# Altium schematic symbol library BEAGLEPLAYV020_220915_Library.SchLib: 81 symbols
Pins are listed as number, name and electrical type; pins without a type are passive.

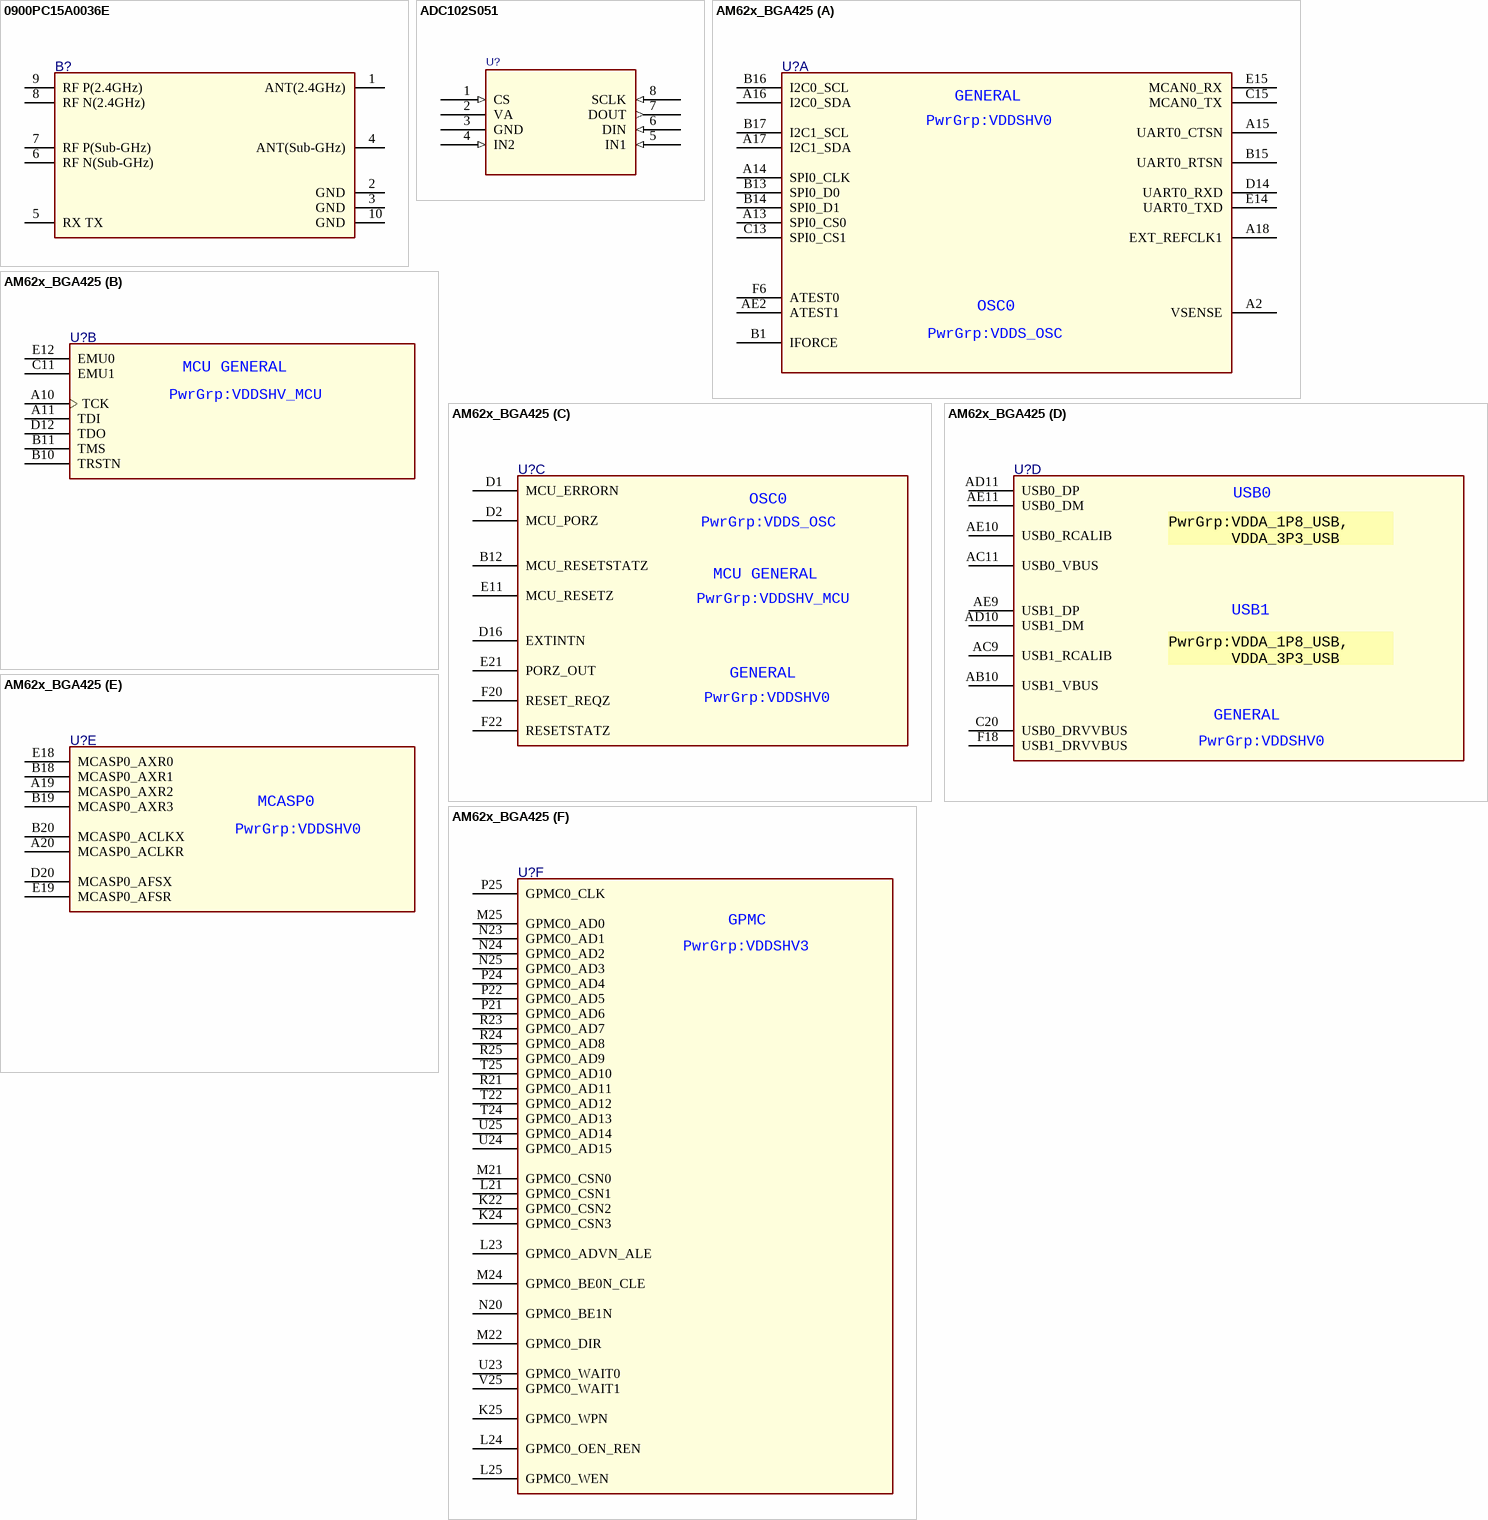
[diagram p0: symbols 0900PC15A0036E to AM62x_BGA425]

## 0900PC15A0036E
designator B?
pins: 1 ANT(2.4GHz), 2 GND (power), 3 GND (power), 4 ANT(Sub-GHz), 5 RX TX, 6 RF N(Sub-GHz), 7 RF P(Sub-GHz), 8 RF N(2.4GHz), 9 RF P(2.4GHz), 10 GND (power)

## ADC102S051
designator U?
pins: 1 CS (in), 2 VA (power), 3 GND (power), 4 IN2 (in), 5 IN1 (in), 6 DIN (in), 7 DOUT (out), 8 SCLK (in)

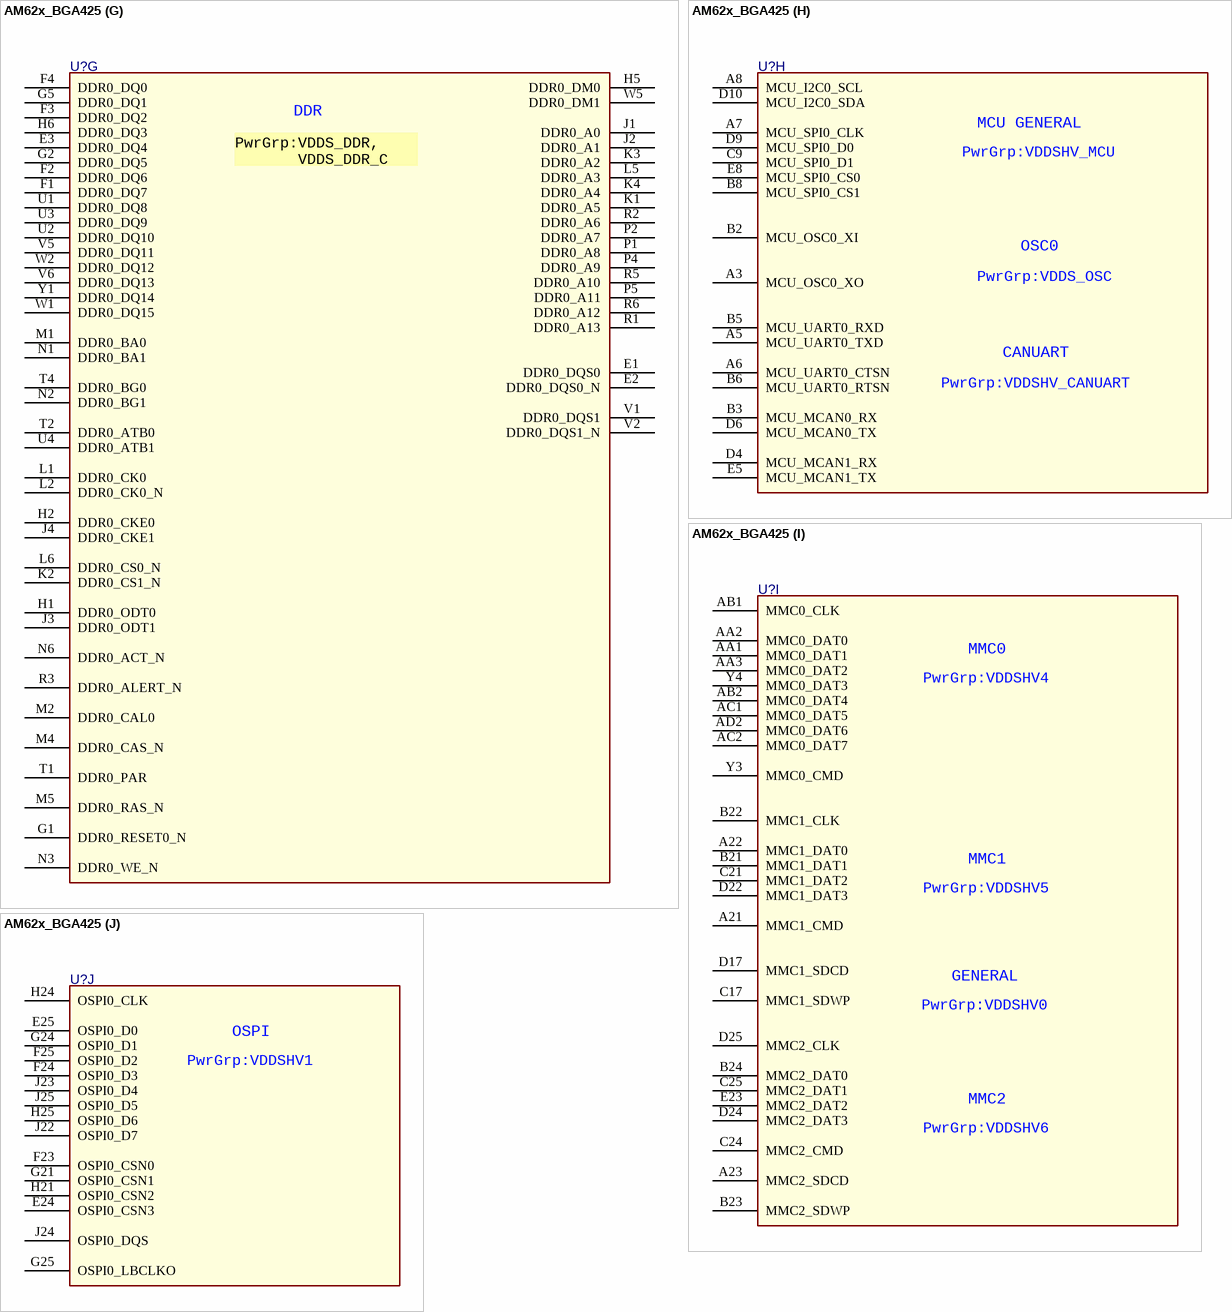
[diagram p1: symbol AM62x_BGA425]

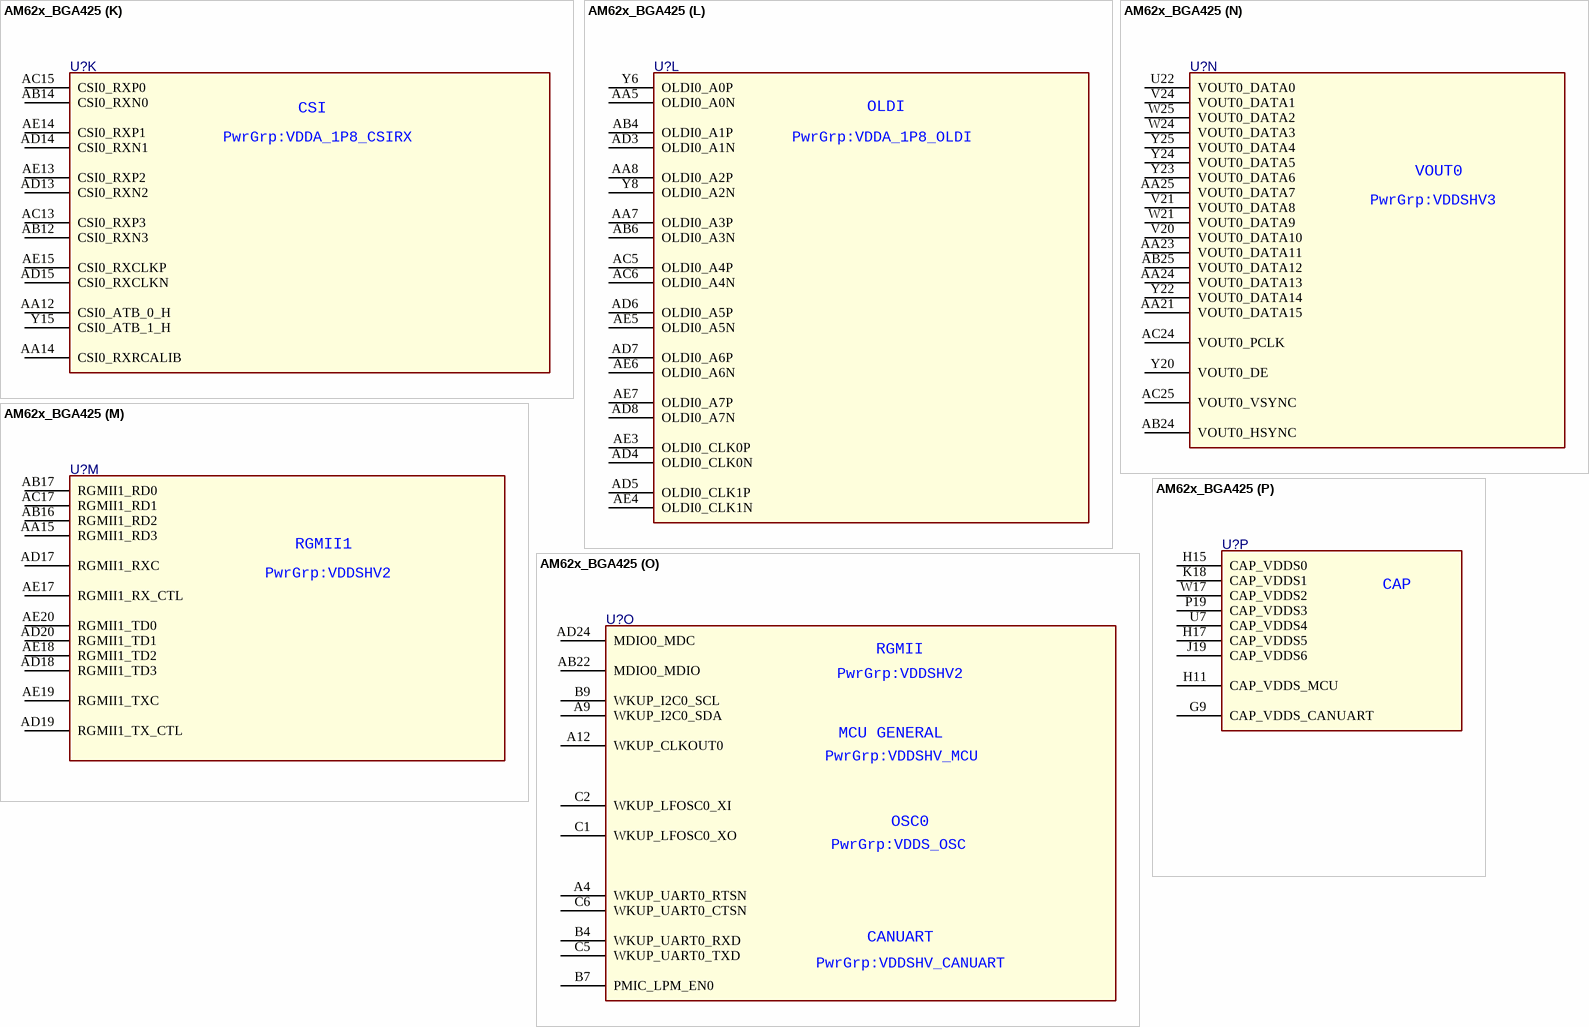
[diagram p2: symbol AM62x_BGA425]

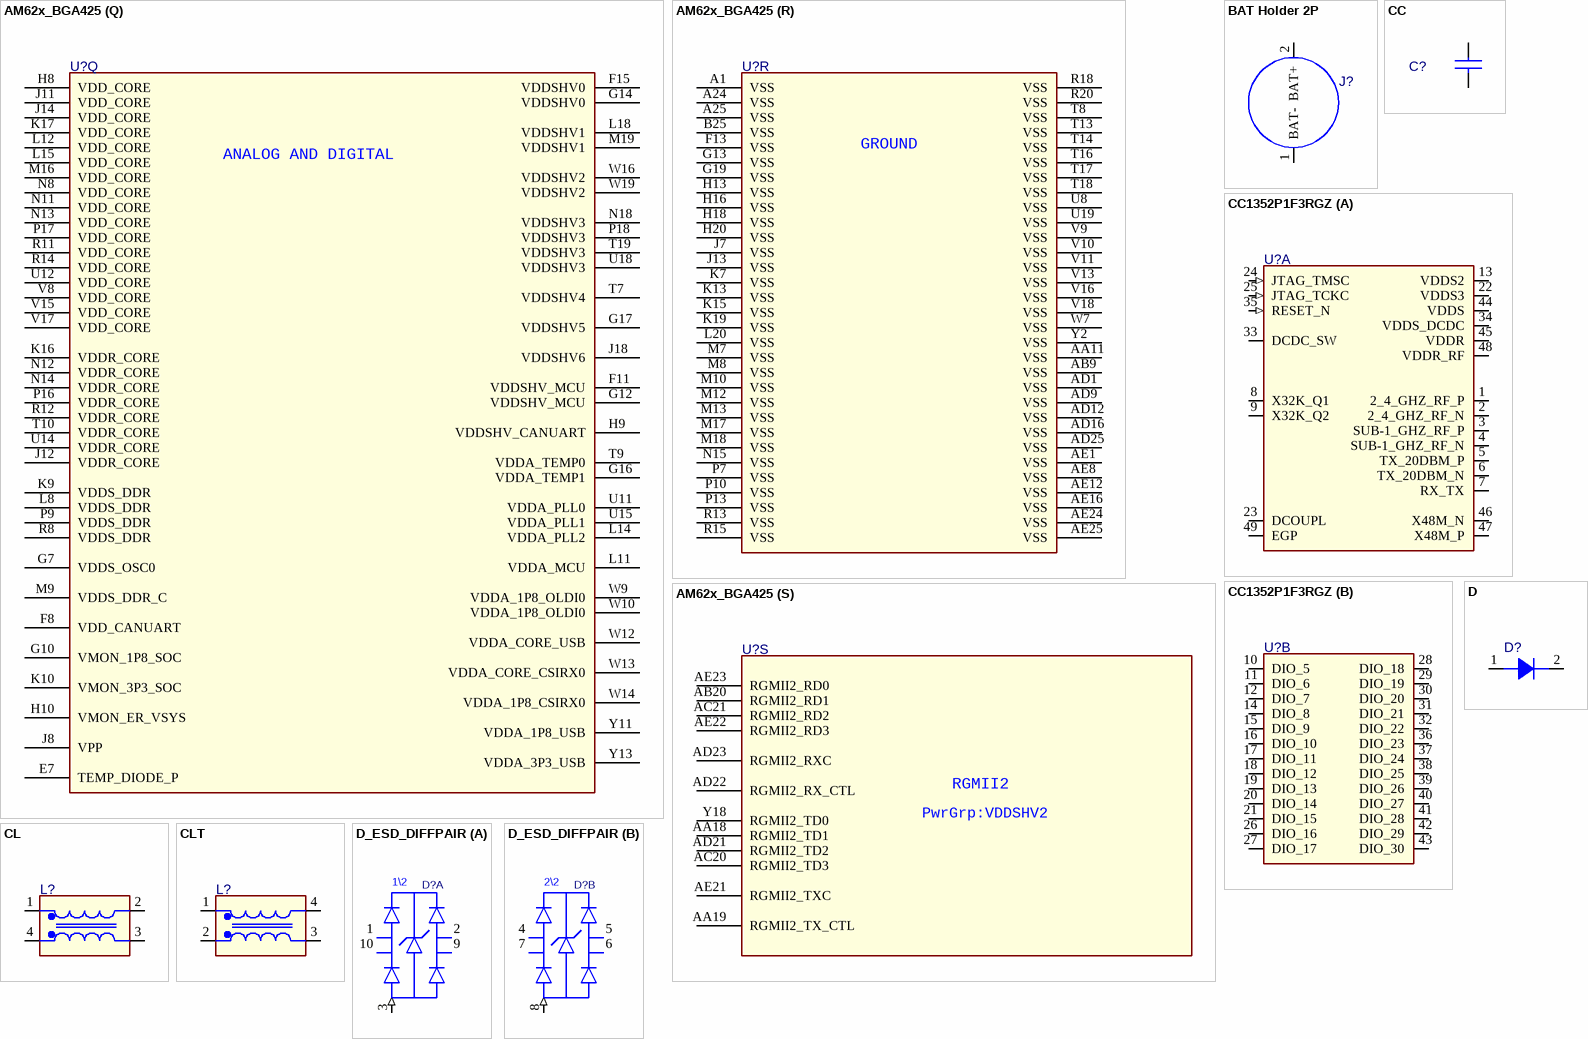
[diagram p3: symbols AM62x_BGA425 to D_ESD_DIFFPAIR]

## AM62x_BGA425
designator U?
part A pins: A2 VSENSE, A13 SPI0_CS0, A14 SPI0_CLK, A15 UART0_CTSN, A16 I2C0_SDA, A17 I2C1_SDA, A18 EXT_REFCLK1, AE2 ATEST1, B1 IFORCE, B13 SPI0_D0, B14 SPI0_D1, B15 UART0_RTSN, B16 I2C0_SCL, B17 I2C1_SCL, C13 SPI0_CS1, C15 MCAN0_TX, D14 UART0_RXD, E14 UART0_TXD, E15 MCAN0_RX, F6 ATEST0
part B pins: A10 TCK, A11 TDI, B10 TRSTN, B11 TMS, C11 EMU1, D12 TDO, E12 EMU0
part C pins: B12 MCU_RESETSTATZ, D1 MCU_ERRORN, D2 MCU_PORZ, D16 EXTINTN, E11 MCU_RESETZ, E21 PORZ_OUT, F20 RESET_REQZ, F22 RESETSTATZ
part D pins: AB10 USB1_VBUS, AC9 USB1_RCALIB, AC11 USB0_VBUS, AD10 USB1_DM, AD11 USB0_DP, AE9 USB1_DP, AE10 USB0_RCALIB, AE11 USB0_DM, C20 USB0_DRVVBUS, F18 USB1_DRVVBUS
part E pins: A19 MCASP0_AXR2, A20 MCASP0_ACLKR, B18 MCASP0_AXR1, B19 MCASP0_AXR3, B20 MCASP0_ACLKX, D20 MCASP0_AFSX, E18 MCASP0_AXR0, E19 MCASP0_AFSR
part F pins: K22 GPMC0_CSN2, K24 GPMC0_CSN3, K25 GPMC0_WPN, L21 GPMC0_CSN1, L23 GPMC0_ADVN_ALE, L24 GPMC0_OEN_REN, L25 GPMC0_WEN, M21 GPMC0_CSN0, M22 GPMC0_DIR, M24 GPMC0_BE0N_CLE, M25 GPMC0_AD0, N20 GPMC0_BE1N, N23 GPMC0_AD1, N24 GPMC0_AD2, N25 GPMC0_AD3, P21 GPMC0_AD6, P22 GPMC0_AD5, P24 GPMC0_AD4, P25 GPMC0_CLK, R21 GPMC0_AD11, R23 GPMC0_AD7, R24 GPMC0_AD8, R25 GPMC0_AD9, T22 GPMC0_AD12, T24 GPMC0_AD13, T25 GPMC0_AD10, U23 GPMC0_WAIT0, U24 GPMC0_AD15, U25 GPMC0_AD14, V25 GPMC0_WAIT1
part G pins: E1 DDR0_DQS0, E2 DDR0_DQS0_N, E3 DDR0_DQ4, F1 DDR0_DQ7, F2 DDR0_DQ6, F3 DDR0_DQ2, F4 DDR0_DQ0, G1 DDR0_RESET0_N, G2 DDR0_DQ5, G5 DDR0_DQ1, H1 DDR0_ODT0, H2 DDR0_CKE0, H5 DDR0_DM0, H6 DDR0_DQ3, J1 DDR0_A0, J2 DDR0_A1, J3 DDR0_ODT1, J4 DDR0_CKE1, K1 DDR0_A5, K2 DDR0_CS1_N, K3 DDR0_A2, K4 DDR0_A4, L1 DDR0_CK0, L2 DDR0_CK0_N, L5 DDR0_A3, L6 DDR0_CS0_N, M1 DDR0_BA0, M2 DDR0_CAL0, M4 DDR0_CAS_N, M5 DDR0_RAS_N, N1 DDR0_BA1, N2 DDR0_BG1, N3 DDR0_WE_N, N6 DDR0_ACT_N, P1 DDR0_A8, P2 DDR0_A7, P4 DDR0_A9, P5 DDR0_A11, R1 DDR0_A13, R2 DDR0_A6, R3 DDR0_ALERT_N, R5 DDR0_A10, R6 DDR0_A12, T1 DDR0_PAR, T2 DDR0_ATB0, T4 DDR0_BG0, U1 DDR0_DQ8, U2 DDR0_DQ10, U3 DDR0_DQ9, U4 DDR0_ATB1, V1 DDR0_DQS1, V2 DDR0_DQS1_N, V5 DDR0_DQ11, V6 DDR0_DQ13, W1 DDR0_DQ15, W2 DDR0_DQ12, W5 DDR0_DM1, Y1 DDR0_DQ14
part H pins: A3 MCU_OSC0_XO, A5 MCU_UART0_TXD, A6 MCU_UART0_CTSN, A7 MCU_SPI0_CLK, A8 MCU_I2C0_SCL, B2 MCU_OSC0_XI, B3 MCU_MCAN0_RX, B5 MCU_UART0_RXD, B6 MCU_UART0_RTSN, B8 MCU_SPI0_CS1, C9 MCU_SPI0_D1, D4 MCU_MCAN1_RX, D6 MCU_MCAN0_TX, D9 MCU_SPI0_D0, D10 MCU_I2C0_SDA, E5 MCU_MCAN1_TX, E8 MCU_SPI0_CS0
part I pins: A21 MMC1_CMD, A22 MMC1_DAT0, A23 MMC2_SDCD, AA1 MMC0_DAT1, AA2 MMC0_DAT0, AA3 MMC0_DAT2, AB1 MMC0_CLK, AB2 MMC0_DAT4, AC1 MMC0_DAT5, AC2 MMC0_DAT7, AD2 MMC0_DAT6, B21 MMC1_DAT1, B22 MMC1_CLK, B23 MMC2_SDWP, B24 MMC2_DAT0, C17 MMC1_SDWP, C21 MMC1_DAT2, C24 MMC2_CMD, C25 MMC2_DAT1, D17 MMC1_SDCD, D22 MMC1_DAT3, D24 MMC2_DAT3, D25 MMC2_CLK, E23 MMC2_DAT2, Y3 MMC0_CMD, Y4 MMC0_DAT3
part J pins: E24 OSPI0_CSN3, E25 OSPI0_D0, F23 OSPI0_CSN0, F24 OSPI0_D3, F25 OSPI0_D2, G21 OSPI0_CSN1, G24 OSPI0_D1, G25 OSPI0_LBCLKO, H21 OSPI0_CSN2, H24 OSPI0_CLK, H25 OSPI0_D6, J22 OSPI0_D7, J23 OSPI0_D4, J24 OSPI0_DQS, J25 OSPI0_D5
part K pins: AA12 CSI0_ATB_0_H, AA14 CSI0_RXRCALIB, AB12 CSI0_RXN3, AB14 CSI0_RXN0, AC13 CSI0_RXP3, AC15 CSI0_RXP0, AD13 CSI0_RXN2, AD14 CSI0_RXN1, AD15 CSI0_RXCLKN, AE13 CSI0_RXP2, AE14 CSI0_RXP1, AE15 CSI0_RXCLKP, Y15 CSI0_ATB_1_H
part L pins: AA5 OLDI0_A0N, AA7 OLDI0_A3P, AA8 OLDI0_A2P, AB4 OLDI0_A1P, AB6 OLDI0_A3N, AC5 OLDI0_A4P, AC6 OLDI0_A4N, AD3 OLDI0_A1N, AD4 OLDI0_CLK0N, AD5 OLDI0_CLK1P, AD6 OLDI0_A5P, AD7 OLDI0_A6P, AD8 OLDI0_A7N, AE3 OLDI0_CLK0P, AE4 OLDI0_CLK1N, AE5 OLDI0_A5N, AE6 OLDI0_A6N, AE7 OLDI0_A7P, Y6 OLDI0_A0P, Y8 OLDI0_A2N
part M pins: AA15 RGMII1_RD3, AB16 RGMII1_RD2, AB17 RGMII1_RD0, AC17 RGMII1_RD1, AD17 RGMII1_RXC, AD18 RGMII1_TD3, AD19 RGMII1_TX_CTL, AD20 RGMII1_TD1, AE17 RGMII1_RX_CTL, AE18 RGMII1_TD2, AE19 RGMII1_TXC, AE20 RGMII1_TD0
part N pins: AA21 VOUT0_DATA15, AA23 VOUT0_DATA11, AA24 VOUT0_DATA13, AA25 VOUT0_DATA7, AB24 VOUT0_HSYNC, AB25 VOUT0_DATA12, AC24 VOUT0_PCLK, AC25 VOUT0_VSYNC, U22 VOUT0_DATA0, V20 VOUT0_DATA10, V21 VOUT0_DATA8, V24 VOUT0_DATA1, W21 VOUT0_DATA9, W24 VOUT0_DATA3, W25 VOUT0_DATA2, Y20 VOUT0_DE, Y22 VOUT0_DATA14, Y23 VOUT0_DATA6, Y24 VOUT0_DATA5, Y25 VOUT0_DATA4
part O pins: A4 WKUP_UART0_RTSN, A9 WKUP_I2C0_SDA, A12 WKUP_CLKOUT0, AB22 MDIO0_MDIO, AD24 MDIO0_MDC, B4 WKUP_UART0_RXD, B7 PMIC_LPM_EN0, B9 WKUP_I2C0_SCL, C1 WKUP_LFOSC0_XO, C2 WKUP_LFOSC0_XI, C5 WKUP_UART0_TXD, C6 WKUP_UART0_CTSN
part P pins: G9 CAP_VDDS_CANUART, H11 CAP_VDDS_MCU, H15 CAP_VDDS0, H17 CAP_VDDS5, J19 CAP_VDDS6, K18 CAP_VDDS1, P19 CAP_VDDS3, U7 CAP_VDDS4, W17 CAP_VDDS2
part Q pins: E7 TEMP_DIODE_P, F8 VDD_CANUART (power), F11 VDDSHV_MCU (power), F15 VDDSHV0 (power), G7 VDDS_OSC0 (power), G10 VMON_1P8_SOC (power), G12 VDDSHV_MCU (power), G14 VDDSHV0 (power), G16 VDDA_TEMP1 (power), G17 VDDSHV5 (power), H8 VDD_CORE (power), H9 VDDSHV_CANUART (power), H10 VMON_ER_VSYS (power), J8 VPP (power), J11 VDD_CORE (power), J12 VDDR_CORE (power), J14 VDD_CORE (power), J18 VDDSHV6 (power), K9 VDDS_DDR (power), K10 VMON_3P3_SOC (power), K16 VDDR_CORE (power), K17 VDD_CORE (power), L8 VDDS_DDR (power), L11 VDDA_MCU (power), L12 VDD_CORE (power), L14 VDDA_PLL2 (power), L15 VDD_CORE (power), L18 VDDSHV1 (power), M9 VDDS_DDR_C (power), M16 VDD_CORE (power), M19 VDDSHV1 (power), N8 VDD_CORE (power), N11 VDD_CORE (power), N12 VDDR_CORE (power), N13 VDD_CORE (power), N14 VDDR_CORE (power), N18 VDDSHV3 (power), P9 VDDS_DDR (power), P16 VDDR_CORE (power), P17 VDD_CORE (power), P18 VDDSHV3 (power), R8 VDDS_DDR (power), R11 VDD_CORE (power), R12 VDDR_CORE (power), R14 VDD_CORE (power), T7 VDDSHV4 (power), T9 VDDA_TEMP0 (power), T10 VDDR_CORE (power), T19 VDDSHV3 (power), U11 VDDA_PLL0 (power), U12 VDD_CORE (power), U14 VDDR_CORE (power), U15 VDDA_PLL1 (power), U18 VDDSHV3 (power), V8 VDD_CORE (power), V15 VDD_CORE (power), V17 VDD_CORE (power), W9 VDDA_1P8_OLDI0 (power), W10 VDDA_1P8_OLDI0 (power), W12 VDDA_CORE_USB (power), W13 VDDA_CORE_CSIRX0 (power), W14 VDDA_1P8_CSIRX0 (power), W16 VDDSHV2 (power), W19 VDDSHV2 (power), Y11 VDDA_1P8_USB (power), Y13 VDDA_3P3_USB (power)
part R pins: A1 VSS (power), A24 VSS (power), A25 VSS (power), AA11 VSS (power), AB9 VSS (power), AD1 VSS (power), AD9 VSS (power), AD12 VSS (power), AD16 VSS (power), AD25 VSS (power), AE1 VSS (power), AE8 VSS (power), AE12 VSS (power), AE16 VSS (power), AE24 VSS (power), AE25 VSS (power), B25 VSS (power), F13 VSS (power), G13 VSS (power), G19 VSS (power), H13 VSS (power), H16 VSS (power), H18 VSS (power), H20 VSS (power), J7 VSS (power), J13 VSS (power), K7 VSS (power), K13 VSS (power), K15 VSS (power), K19 VSS (power), L20 VSS (power), M7 VSS (power), M8 VSS (power), M10 VSS (power), M12 VSS (power), M13 VSS (power), M17 VSS (power), M18 VSS (power), N15 VSS (power), P7 VSS (power), P10 VSS (power), P13 VSS (power), R13 VSS (power), R15 VSS (power), R18 VSS (power), R20 VSS (power), T8 VSS (power), T13 VSS (power), T14 VSS (power), T16 VSS (power), T17 VSS (power), T18 VSS (power), U8 VSS (power), U19 VSS (power), V9 VSS (power), V10 VSS (power), V11 VSS (power), V13 VSS (power), V16 VSS (power), V18 VSS (power), W7 VSS (power), Y2 VSS (power)
part S pins: AA18 RGMII2_TD1, AA19 RGMII2_TX_CTL, AB20 RGMII2_RD1, AC20 RGMII2_TD3, AC21 RGMII2_RD2, AD21 RGMII2_TD2, AD22 RGMII2_RX_CTL, AD23 RGMII2_RXC, AE21 RGMII2_TXC, AE22 RGMII2_RD3, AE23 RGMII2_RD0, Y18 RGMII2_TD0
part A text: GENERAL; PwrGrp:VDDSHV0; OSC0; PwrGrp:VDDS_OSC
part B text: MCU GENERAL; PwrGrp:VDDSHV_MCU
part C text: OSC0; PwrGrp:VDDS_OSC; MCU GENERAL; PwrGrp:VDDSHV_MCU; GENERAL; PwrGrp:VDDSHV0
part D text: USB0; PwrGrp:VDDA_1P8_USB, / VDDA_3P3_USB; USB1; GENERAL; PwrGrp:VDDSHV0
part E text: MCASP0; PwrGrp:VDDSHV0
part F text: GPMC; PwrGrp:VDDSHV3
part G text: DDR; PwrGrp:VDDS_DDR, / VDDS_DDR_C
part H text: MCU GENERAL; PwrGrp:VDDSHV_MCU; OSC0; PwrGrp:VDDS_OSC; CANUART; PwrGrp:VDDSHV_CANUART
part I text: MMC0; PwrGrp:VDDSHV4; MMC1; PwrGrp:VDDSHV5; GENERAL; PwrGrp:VDDSHV0; MMC2; PwrGrp:VDDSHV6
part J text: OSPI; PwrGrp:VDDSHV1
part K text: CSI; PwrGrp:VDDA_1P8_CSIRX
part L text: OLDI; PwrGrp:VDDA_1P8_OLDI
part M text: RGMII1; PwrGrp:VDDSHV2
part N text: VOUT0; PwrGrp:VDDSHV3
part O text: RGMII; PwrGrp:VDDSHV2; MCU GENERAL; PwrGrp:VDDSHV_MCU; OSC0; PwrGrp:VDDS_OSC; CANUART; PwrGrp:VDDSHV_CANUART
part P text: CAP
part Q text: ANALOG AND DIGITAL
part R text: GROUND
part S text: RGMII2; PwrGrp:VDDSHV2

## BAT Holder 2P
designator J?
pins: 1 BAT-, 2 BAT+

## CC
designator C?
pins: 1, 2
1 alternate drawing of the same symbol

## CC1352P1F3RGZ
designator U?
part A pins: 1 2_4_GHZ_RF_P, 2 2_4_GHZ_RF_N, 3 SUB-1_GHZ_RF_P, 4 SUB-1_GHZ_RF_N, 5 TX_20DBM_P, 6 TX_20DBM_N, 7 RX_TX, 8 X32K_Q1, 9 X32K_Q2, 13 VDDS2 (power), 22 VDDS3 (power), 23 DCOUPL, 24 JTAG_TMSC (in), 25 JTAG_TCKC (in), 33 DCDC_SW, 34 VDDS_DCDC (power), 35 RESET_N (in), 44 VDDS (power), 45 VDDR (power), 46 X48M_N, 47 X48M_P, 48 VDDR_RF (power), 49 EGP (power)
part B pins: 10 DIO_5, 11 DIO_6, 12 DIO_7, 14 DIO_8, 15 DIO_9, 16 DIO_10, 17 DIO_11, 18 DIO_12, 19 DIO_13, 20 DIO_14, 21 DIO_15, 26 DIO_16, 27 DIO_17, 28 DIO_18, 29 DIO_19, 30 DIO_20, 31 DIO_21, 32 DIO_22, 36 DIO_23, 37 DIO_24, 38 DIO_25, 39 DIO_26, 40 DIO_27, 41 DIO_28, 42 DIO_29, 43 DIO_30

## CL
designator L?
pins: 1, 2, 3, 4

## CLT
designator L?
pins: 1, 2, 3, 4

## D
designator D?
pins: 1 A, 2 C

## D_ESD_DIFFPAIR
designator D?
part A pins: 1 1A, 2 2A, 3 GND1 (in), 9 2B, 10 1B
part B pins: 4 3A, 5 4A, 6 4B, 7 3B, 8 GND1 (in)
part A text: 1\2
part B text: 2\2

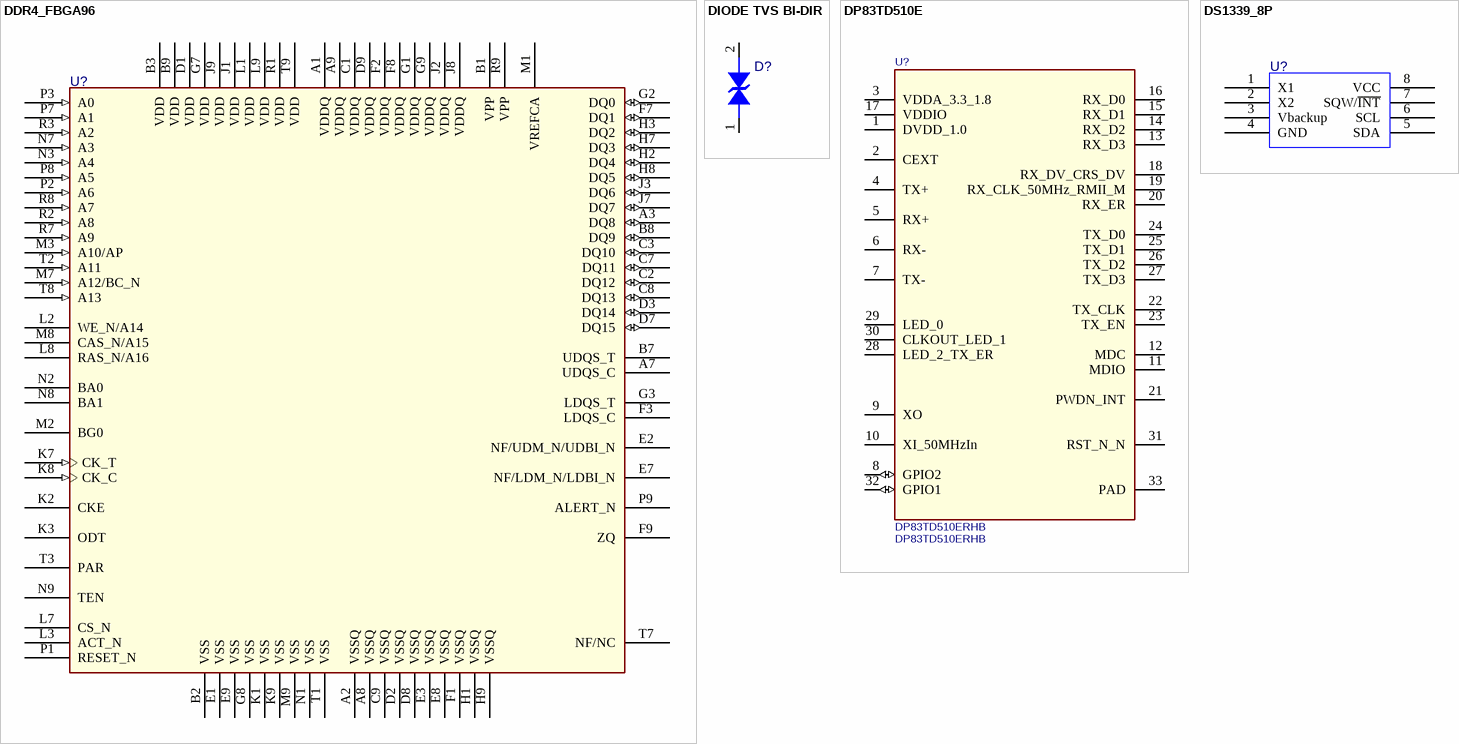
[diagram p4: symbols DDR4_FBGA96 to DS1339_8P]

## DDR4_FBGA96
designator U?
pins: A1 VDDQ (power), A2 VSSQ (power), A3 DQ8 (io), A7 UDQS_C, A8 VSSQ (power), A9 VDDQ (power), B1 VPP (power), B2 VSS (power), B3 VDD (power), B7 UDQS_T, B8 DQ9 (io), B9 VDD (power), C1 VDDQ (power), C2 DQ12 (io), C3 DQ10 (io), C7 DQ11 (io), C8 DQ13 (io), C9 VSSQ (power), D1 VDD (power), D2 VSSQ (power), D3 DQ14 (io), D7 DQ15 (io), D8 VSSQ (power), D9 VDDQ (power), E1 VSS (power), E2 NF/UDM_N/UDBI_N, E3 VSSQ (power), E7 NF/LDM_N/LDBI_N, E8 VSSQ (power), E9 VSS (power), F1 VSSQ (power), F2 VDDQ (power), F3 LDQS_C, F7 DQ1 (io), F8 VDDQ (power), F9 ZQ, G1 VDDQ (power), G2 DQ0 (io), G3 LDQS_T, G7 VDD (power), G8 VSS (power), G9 VDDQ (power), H1 VSSQ (power), H2 DQ4 (io), H3 DQ2 (io), H7 DQ3 (io), H8 DQ5 (io), H9 VSSQ (power), J1 VDD (power), J2 VDDQ (power), J3 DQ6 (io), J7 DQ7 (io), J8 VDDQ (power), J9 VDD (power), K1 VSS (power), K2 CKE, K3 ODT, K7 CK_T (in), K8 CK_C (in), K9 VSS (power), L1 VDD (power), L2 WE_N/A14, L3 ACT_N, L7 CS_N, L8 RAS_N/A16, L9 VDD (power), M1 VREFCA (power), M2 BG0, M3 A10/AP (in), M7 A12/BC_N (in), M8 CAS_N/A15, M9 VSS (power), N1 VSS (power), N2 BA0, N3 A4 (in), N7 A3 (in), N8 BA1, N9 TEN, P1 RESET_N, P2 A6 (in), P3 A0 (in), P7 A1 (in), P8 A5 (in), P9 ALERT_N, R1 VDD (power), R2 A8 (in), R3 A2 (in), R7 A9 (in), R8 A7 (in), R9 VPP (power), T1 VSS (power), T2 A11 (in), T3 PAR, T7 NF/NC, T8 A13 (in), T9 VDD (power)

## DIODE TVS BI-DIR
designator D?
pins: 1, 2

## DP83TD510E
designator U?, comment DP83TD510ERHB
Value: DP83TD510ERHB
pins: 1 DVDD_1.0 (power), 2 CEXT, 3 VDDA_3.3_1.8 (power), 4 TX+, 5 RX+, 6 RX-, 7 TX-, 8 GPIO2 (io), 9 XO, 10 XI_50MHzIn, 11 MDIO, 12 MDC, 13 RX_D3, 14 RX_D2, 15 RX_D1, 16 RX_D0, 17 VDDIO (power), 18 RX_DV_CRS_DV, 19 RX_CLK_50MHz_RMII_M, 20 RX_ER, 21 PWDN_INT, 22 TX_CLK, 23 TX_EN, 24 TX_D0, 25 TX_D1, 26 TX_D2, 27 TX_D3, 28 LED_2_TX_ER, 29 LED_0, 30 CLKOUT_LED_1, 31 RST_N_N, 32 GPIO1 (io), 33 PAD (power)

## DS1339_8P
designator U?
pins: 1 X1, 2 X2, 3 Vbackup (power), 4 GND, 5 SDA, 6 SCL, 7 SQW/~{INT}, 8 VCC

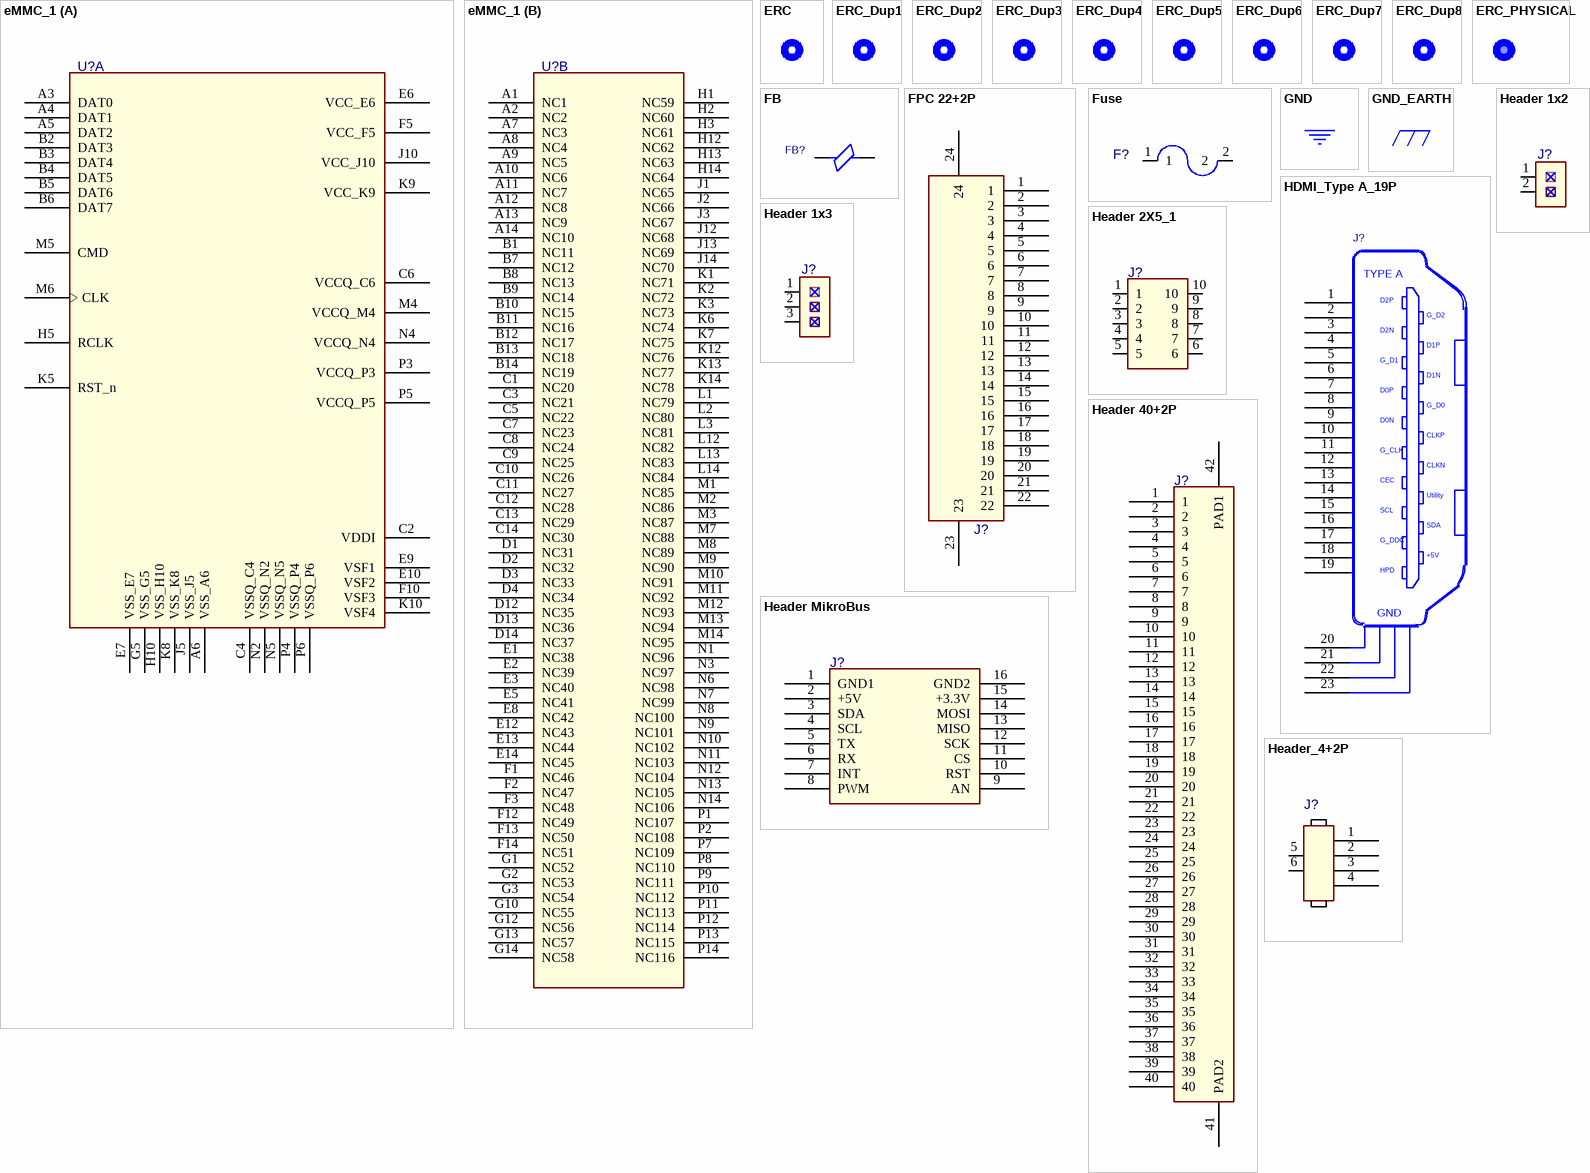
[diagram p5: symbols eMMC_1 to Header_4+2P]

## eMMC_1
designator U?
SWAP_INFO: (S1+S2); SPLIT_INST: TRUE
part A pins: A3 DAT0, A4 DAT1, A5 DAT2, A6 VSS_A6, B2 DAT3, B3 DAT4, B4 DAT5, B5 DAT6, B6 DAT7, C2 VDDI, C4 VSSQ_C4, C6 VCCQ_C6, E6 VCC_E6, E7 VSS_E7, E9 VSF1, E10 VSF2, F5 VCC_F5, F10 VSF3, G5 VSS_G5, H5 RCLK, H10 VSS_H10, J5 VSS_J5, J10 VCC_J10, K5 RST_n, K8 VSS_K8, K9 VCC_K9, K10 VSF4, M4 VCCQ_M4, M5 CMD, M6 CLK, N2 VSSQ_N2, N4 VCCQ_N4, N5 VSSQ_N5, P3 VCCQ_P3, P4 VSSQ_P4, P5 VCCQ_P5, P6 VSSQ_P6
part B pins: A1 NC1, A2 NC2, A7 NC3, A8 NC4, A9 NC5, A10 NC6, A11 NC7, A12 NC8, A13 NC9, A14 NC10, B1 NC11, B7 NC12, B8 NC13, B9 NC14, B10 NC15, B11 NC16, B12 NC17, B13 NC18, B14 NC19, C1 NC20, C3 NC21, C5 NC22, C7 NC23, C8 NC24, C9 NC25, C10 NC26, C11 NC27, C12 NC28, C13 NC29, C14 NC30, D1 NC31, D2 NC32, D3 NC33, D4 NC34, D12 NC35, D13 NC36, D14 NC37, E1 NC38, E2 NC39, E3 NC40, E5 NC41, E8 NC42, E12 NC43, E13 NC44, E14 NC45, F1 NC46, F2 NC47, F3 NC48, F12 NC49, F13 NC50, F14 NC51, G1 NC52, G2 NC53, G3 NC54, G10 NC55, G12 NC56, G13 NC57, G14 NC58, H1 NC59, H2 NC60, H3 NC61, H12 NC62, H13 NC63, H14 NC64, J1 NC65, J2 NC66, J3 NC67, J12 NC68, J13 NC69, J14 NC70, K1 NC71, K2 NC72, K3 NC73, K6 NC74, K7 NC75, K12 NC76, K13 NC77, K14 NC78, L1 NC79, L2 NC80, L3 NC81, L12 NC82, L13 NC83, L14 NC84, M1 NC85, M2 NC86, M3 NC87, M7 NC88, M8 NC89, M9 NC90, M10 NC91, M11 NC92, M12 NC93, M13 NC94, M14 NC95, N1 NC96, N3 NC97, N6 NC98, N7 NC99, N8 NC100, N9 NC101, N10 NC102, N11 NC103, N12 NC104, N13 NC105, N14 NC106, P1 NC107, P2 NC108, P7 NC109, P8 NC110, P9 NC111, P10 NC112, P11 NC113, P12 NC114, P13 NC115, P14 NC116

## ERC
designator *  (value not drawn)  (graphical)

## ERC_Dup1
designator *  (value not drawn)  (graphical)

## ERC_Dup2
designator *  (value not drawn)  (graphical)

## ERC_Dup3
designator *  (value not drawn)  (graphical)

## ERC_Dup4
designator *  (value not drawn)  (graphical)

## ERC_Dup5
designator *  (value not drawn)  (graphical)

## ERC_Dup6
designator *  (value not drawn)  (graphical)

## ERC_Dup7
designator *  (value not drawn)  (graphical)

## ERC_Dup8
designator *  (value not drawn)  (graphical)

## ERC_PHYSICAL
designator *  (value not drawn)  (graphical)

## FB
designator FB?
pins: 1, 2

## FPC 22+2P
designator J?
pins: 1, 2, 3, 4, 5, 6, 7, 8, 9, 10, 11, 12, 13, 14, 15, 16, 17, 18, 19, 20, 21, 22, 23, 24

## Fuse
designator F?
pins: 1, 2

## GND
designator *  (value not drawn)  (graphical)
pins: $PIN0 (power) hidden to $PIN0

## GND_EARTH
designator *  (value not drawn)  (graphical)
pins: $PIN0 (power) hidden to $PIN0

## HDMI_Type A_19P
designator J?
pins: 1 D2+, 2 D2GND (power), 3 D2-, 4 D1+, 5 D1GND (power), 6 D1-, 7 D0+, 8 D0GND (power), 9 D0-, 10 CK+, 11 CKGND (power), 12 CK-, 13 CEC, 14 Utility, 15 SCL, 16 SDA, 17 DDCGND (power), 18 +5V, 19 HPD, 20 GND1, 21 GND2, 22 GND3, 23 GND4
text: TYPE A; D2P; G_D2; D2N; D1P; G_D1; D1N; D0P; G_D0; D0N; CLKP; G_CLK; CLKN; G_DDC; GND

## Header 1x2
designator J?
pins: 1, 2

## Header 1x3
designator J?
pins: 1, 2, 3

## Header 2X5_1
designator J?
pins: 1, 2, 3, 4, 5, 6, 7, 8, 9, 10

## Header 40+2P
designator J?
pins: 1, 2, 3, 4, 5, 6, 7, 8, 9, 10, 11, 12, 13, 14, 15, 16, 17, 18, 19, 20, 21, 22, 23, 24, 25, 26, 27, 28, 29, 30, 31, 32, 33, 34, 35, 36, 37, 38, 39, 40, 41 PAD2, 42 PAD1

## Header MikroBus
designator J?
pins: 1 GND1, 2 +5V, 3 SDA, 4 SCL, 5 TX, 6 RX, 7 INT, 8 PWM, 9 AN, 10 RST, 11 CS, 12 SCK, 13 MISO, 14 MOSI, 15 +3.3V, 16 GND2

## Header_4+2P
designator J?
pins: 1, 2, 3, 4, 5, 6

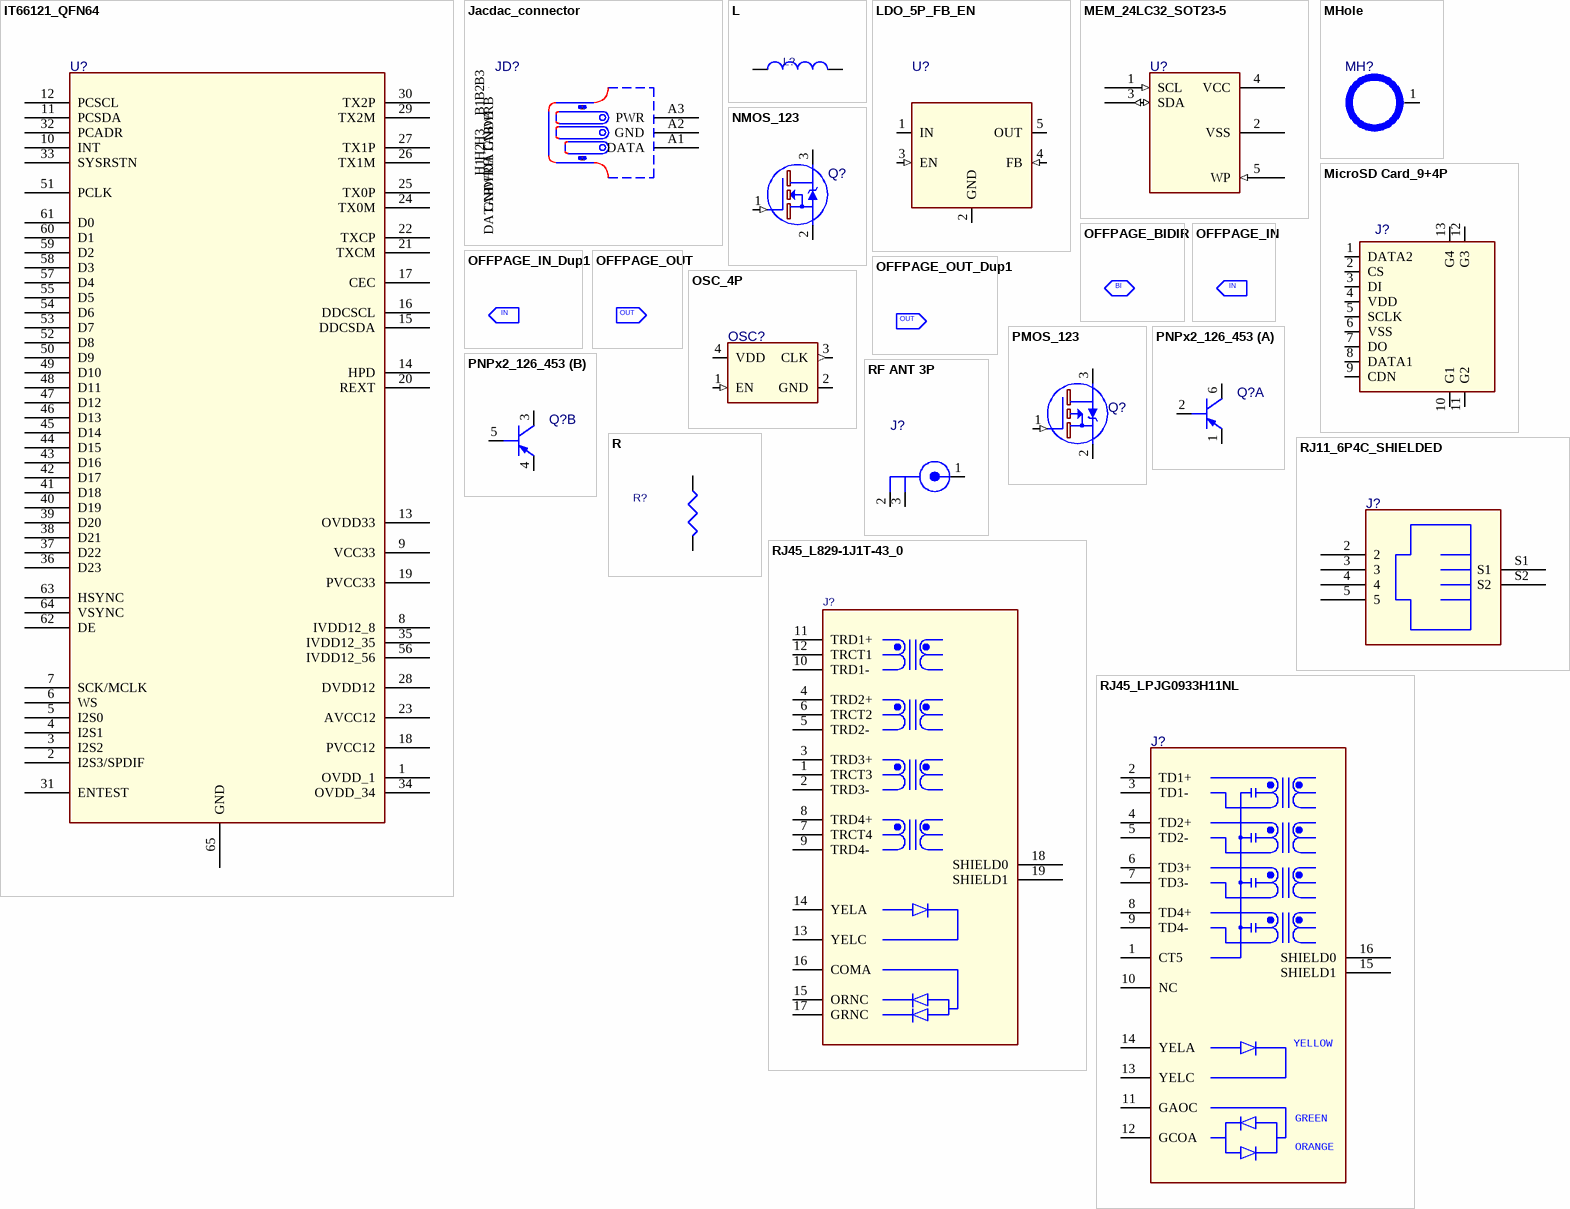
[diagram p6: symbols IT66121_QFN64 to RJ45_LPJG0933H11NL]

## IT66121_QFN64
designator U?
pins: 1 OVDD_1, 2 I2S3/SPDIF, 3 I2S2, 4 I2S1, 5 I2S0, 6 WS, 7 SCK/MCLK, 8 IVDD12_8, 9 VCC33, 10 INT, 11 PCSDA, 12 PCSCL, 13 OVDD33, 14 HPD, 15 DDCSDA, 16 DDCSCL, 17 CEC, 18 PVCC12, 19 PVCC33, 20 REXT, 21 TXCM, 22 TXCP, 23 AVCC12, 24 TX0M, 25 TX0P, 26 TX1M, 27 TX1P, 28 DVDD12, 29 TX2M, 30 TX2P, 31 ENTEST, 32 PCADR, 33 SYSRSTN, 34 OVDD_34, 35 IVDD12_35, 36 D23, 37 D22, 38 D21, 39 D20, 40 D19, 41 D18, 42 D17, 43 D16, 44 D15, 45 D14, 46 D13, 47 D12, 48 D11, 49 D10, 50 D9, 51 PCLK, 52 D8, 53 D7, 54 D6, 55 D5, 56 IVDD12_56, 57 D4, 58 D3, 59 D2, 60 D1, 61 D0, 62 DE, 63 HSYNC, 64 VSYNC, 65 GND

## Jacdac_connector
designator JD?
PACK_SHORT: (PWR,PWRH,PWRB),(GND,GNDH,GNDB),(DATA,DATAH,DATAB)
pins: A1 DATA, A2 GND, A3 PWR, B1 DATAB, B2 GNDB, B3 PWRB, H1 DATAH, H2 GNDH, H3 PWRH

## L
designator L?
pins: 1, 2
1 alternate drawing of the same symbol

## LDO_5P_FB_EN
designator U?
pins: 1 IN (power), 2 GND (power), 3 EN (in), 4 FB (in), 5 OUT (power)

## MEM_24LC32_SOT23-5
designator U?
pins: 1 SCL (in), 2 VSS (power), 3 SDA (io), 4 VCC (power), 5 WP (in)

## MHole
designator MH?
pins: 1 NC

## MicroSD Card_9+4P
designator J?
pins: 1 DATA2, 2 CS, 3 DI, 4 VDD, 5 SCLK, 6 VSS, 7 DO, 8 DATA1, 9 CDN, 10 G1, 11 G2, 12 G3, 13 G4

## NMOS_123
designator Q?
pins: 1 G (in), 2 S, 3 D

## OFFPAGE_BIDIR
designator *  (value not drawn)  (graphical)
pins: $PIN0 hidden
text: BI

## OFFPAGE_IN
designator *  (value not drawn)  (graphical)
pins: $PIN0 hidden
text: IN

## OFFPAGE_IN_Dup1
designator *  (value not drawn)  (graphical)
pins: $PIN0 hidden
text: IN

## OFFPAGE_OUT
designator *  (value not drawn)  (graphical)
OriginalSymbolOrigin: (-50,50)
pins: $PIN0 hidden
text: OUT

## OFFPAGE_OUT_Dup1
designator *  (value not drawn)  (graphical)
OriginalSymbolOrigin: (-50,50)
pins: $PIN0 hidden
text: OUT

## OSC_4P
designator OSC?
pins: 1 EN (in), 2 GND (power), 3 CLK (out), 4 VDD (power)

## PMOS_123
designator Q?
pins: 1 G (in), 2 S, 3 D

## PNPx2_126_453
designator Q?
part A pins: 1 E, 2 B, 6 C
part B pins: 3 C, 4 E, 5 B

## R
designator R?
pins: 1, 2
1 alternate drawing of the same symbol

## RF ANT 3P
designator J?
pins: 1 CENTER, 2 SHIELD1, 3 SHIELD2

## RJ11_6P4C_SHIELDED
designator J?
pins: 2, 3, 4, 5, S1, S2

## RJ45_L829-1J1T-43_0
designator J?
pins: 1 TRCT3, 2 TRD3-, 3 TRD3+, 4 TRD2+, 5 TRD2-, 6 TRCT2, 7 TRCT4, 8 TRD4+, 9 TRD4-, 10 TRD1-, 11 TRD1+, 12 TRCT1, 13 YELC, 14 YELA, 15 ORNC, 16 COMA, 17 GRNC, 18 SHIELD0, 19 SHIELD1

## RJ45_LPJG0933H11NL
designator J?
pins: 1 CT5, 2 TD1+, 3 TD1-, 4 TD2+, 5 TD2-, 6 TD3+, 7 TD3-, 8 TD4+, 9 TD4-, 10 NC, 11 GAOC, 12 GCOA, 13 YELC, 14 YELA, 15 SHIELD1, 16 SHIELD0
text: YELLOW; GREEN; ORANGE

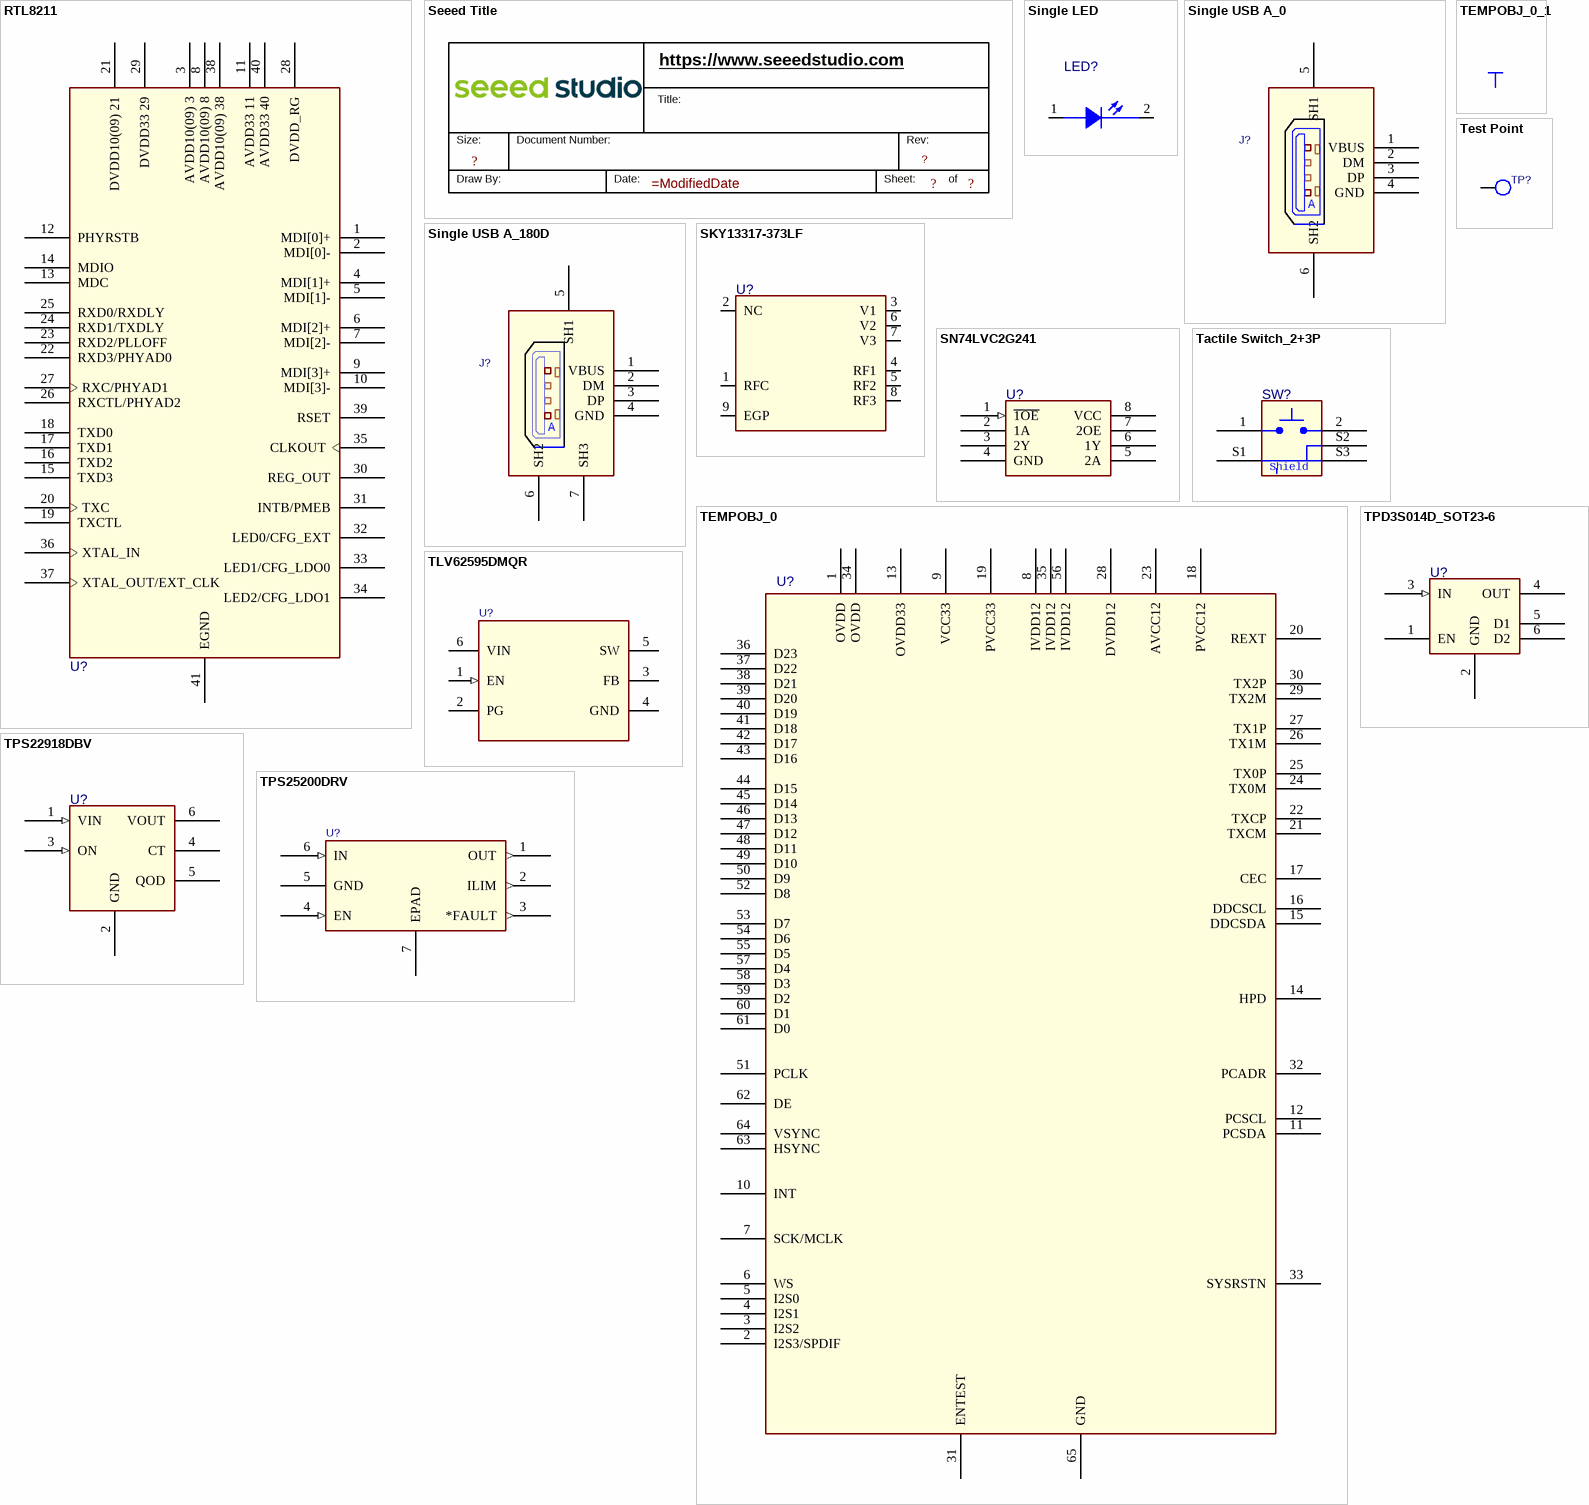
[diagram p7: symbols RTL8211 to TPS25200DRV]

## RTL8211
designator U?
pins: 1 MDI[0]+, 2 MDI[0]-, 3 AVDD10(09) 3 (power), 4 MDI[1]+, 5 MDI[1]-, 6 MDI[2]+, 7 MDI[2]-, 8 AVDD10(09) 8 (power), 9 MDI[3]+, 10 MDI[3]-, 11 AVDD33 11 (power), 12 PHYRSTB, 13 MDC, 14 MDIO, 15 TXD3, 16 TXD2, 17 TXD1, 18 TXD0, 19 TXCTL, 20 TXC, 21 DVDD10(09) 21 (power), 22 RXD3/PHYAD0, 23 RXD2/PLLOFF, 24 RXD1/TXDLY, 25 RXD0/RXDLY, 26 RXCTL/PHYAD2, 27 RXC/PHYAD1, 28 DVDD_RG (power), 29 DVDD33 29 (power), 30 REG_OUT (power), 31 INTB/PMEB, 32 LED0/CFG_EXT, 33 LED1/CFG_LDO0, 34 LED2/CFG_LDO1, 35 CLKOUT, 36 XTAL_IN, 37 XTAL_OUT/EXT_CLK, 38 AVDD10(09) 38 (power), 39 RSET, 40 AVDD33 40 (power), 41 EGND

## Seeed Title
designator *  (value not drawn)  (graphical)
Company: Seeed Studio; WebSite: https://www.seeedstudio.com; RevCode: ?; Page Size: ?; Page Number: ?; Page Create Date: May 29, 2006; Page Count: ?; Page Modify Date: =ModifiedDate
text: Title:; Size:; Document Number:; Rev:; Draw By:; Date:; Sheet:; of

## Single LED
designator LED?
pins: 1 A, 2 C

## Single USB A_0
designator J?
pins: 1 VBUS, 2 DM, 3 DP, 4 GND, 5 SH1, 6 SH2
text: A

## Single USB A_180D
designator J?
footprint CON_USBDUAL72309
pins: 1 VBUS, 2 DM, 3 DP, 4 GND, 5 SH1, 6 SH2, 7 SH3
text: A

## SKY13317-373LF
designator U?
pins: 1 RFC, 2 NC, 3 V1, 4 RF1, 5 RF2, 6 V2, 7 V3, 8 RF3, 9 EGP (power)

## SN74LVC2G241
designator U?
pins: 1 ~{1OE} (in), 2 1A, 3 2Y, 4 GND (power), 5 2A, 6 1Y, 7 2OE, 8 VCC (power)

## Tactile Switch_2+3P
designator SW?
pins: 1 A2, 2 B3, S1 A1, S2 B2, S3 B1
text: Shield

## TEMPOBJ_0
designator U?
pins: 1 OVDD, 2 I2S3/SPDIF, 3 I2S2, 4 I2S1, 5 I2S0, 6 WS, 7 SCK/MCLK, 8 IVDD12, 9 VCC33, 10 INT, 11 PCSDA, 12 PCSCL, 13 OVDD33, 14 HPD, 15 DDCSDA, 16 DDCSCL, 17 CEC, 18 PVCC12, 19 PVCC33, 20 REXT, 21 TXCM, 22 TXCP, 23 AVCC12, 24 TX0M, 25 TX0P, 26 TX1M, 27 TX1P, 28 DVDD12, 29 TX2M, 30 TX2P, 31 ENTEST, 32 PCADR, 33 SYSRSTN, 34 OVDD, 35 IVDD12, 36 D23, 37 D22, 38 D21, 39 D20, 40 D19, 41 D18, 42 D17, 43 D16, 44 D15, 45 D14, 46 D13, 47 D12, 48 D11, 49 D10, 50 D9, 51 PCLK, 52 D8, 53 D7, 54 D6, 55 D5, 56 IVDD12, 57 D4, 58 D3, 59 D2, 60 D1, 61 D0, 62 DE, 63 HSYNC, 64 VSYNC, 65 GND

## TEMPOBJ_0_1
designator *  (value not drawn)  (graphical)
pins: $PIN0 (power) hidden to $PIN0

## Test Point
designator TP?
ASSY: DNP
footprint tp1-8040
pins: 1 TP

## TLV62595DMQR
designator U?
pins: 1 EN (in), 2 PG (oc), 3 FB, 4 GND (power), 5 SW, 6 VIN (power)

## TPD3S014D_SOT23-6
designator U?
pins: 1 EN, 2 GND (power), 3 IN (in), 4 OUT, 5 D1, 6 D2

## TPS22918DBV
designator U?
pins: 1 VIN (in), 2 GND (power), 3 ON (in), 4 CT, 5 QOD, 6 VOUT

## TPS25200DRV
designator U?
pins: 1 OUT (out), 2 ILIM (out), 3 *FAULT (out), 4 EN (in), 5 GND (power), 6 IN (in), 7 EPAD

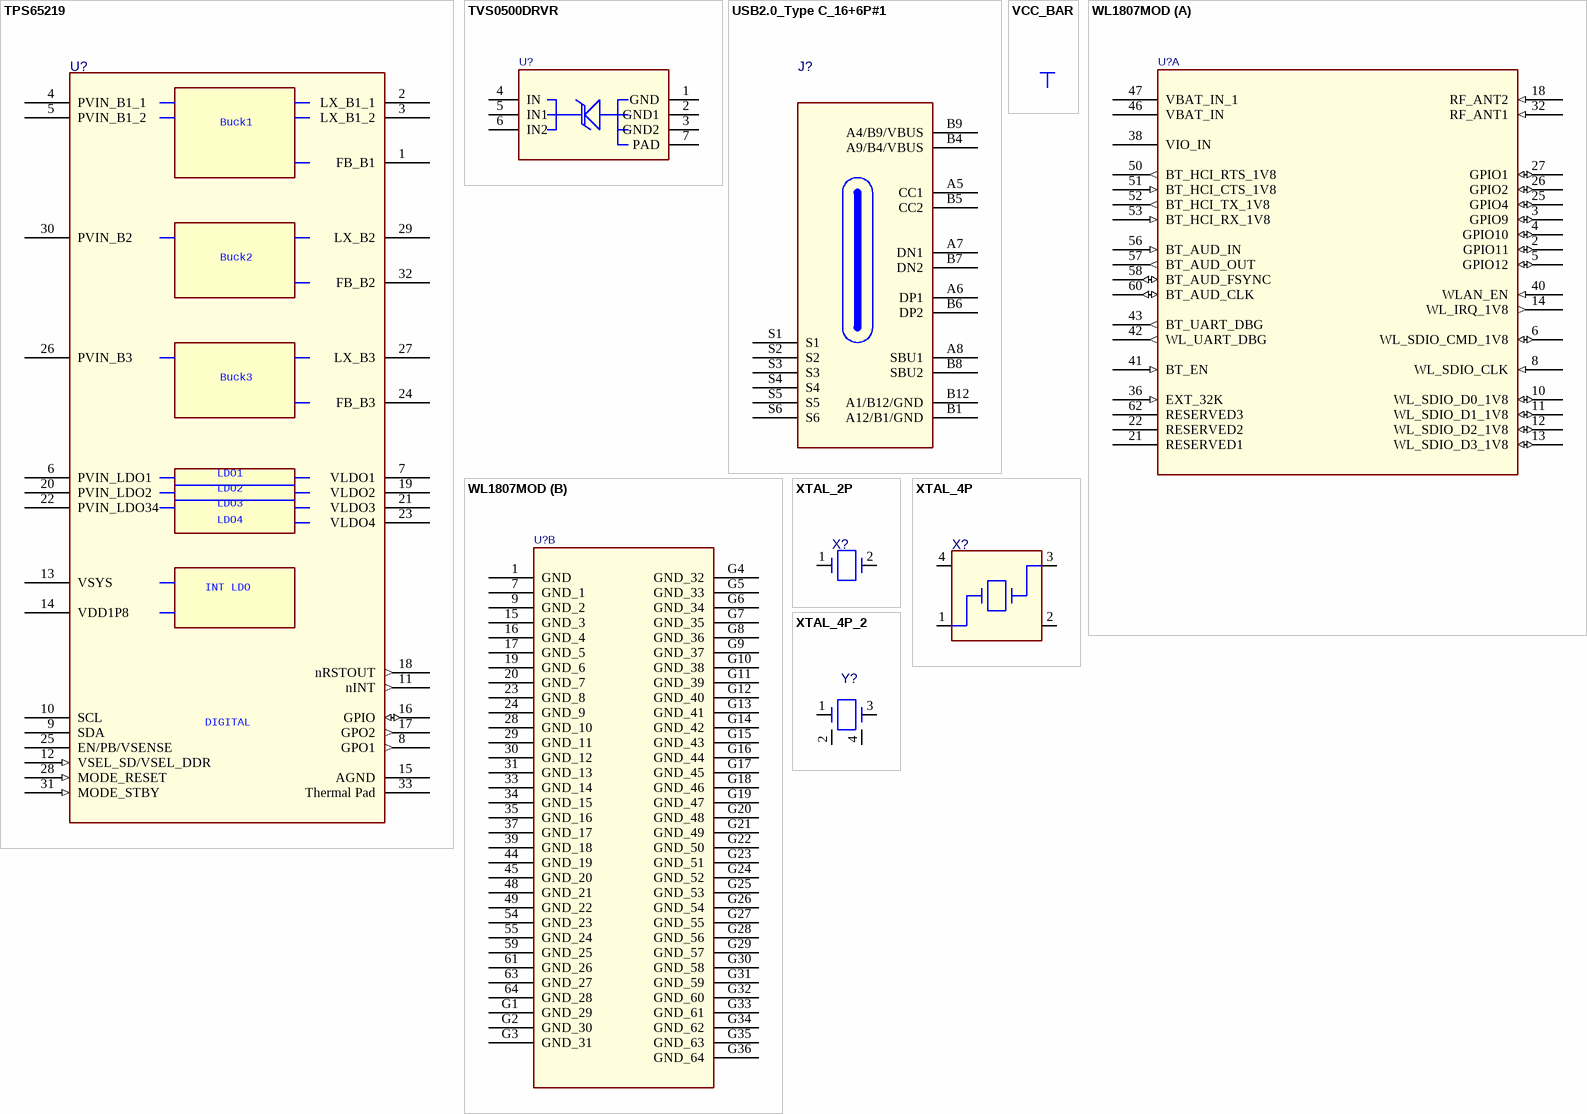
[diagram p8: symbols TPS65219 to XTAL_4P_2]

## TPS65219
designator U?
pins: 1 FB_B1, 2 LX_B1_1, 3 LX_B1_2, 4 PVIN_B1_1 (power), 5 PVIN_B1_2 (power), 6 PVIN_LDO1 (power), 7 VLDO1 (power), 8 GPO1 (out), 9 SDA, 10 SCL, 11 nINT (out), 12 VSEL_SD/VSEL_DDR (in), 13 VSYS (power), 14 VDD1P8, 15 AGND (power), 16 GPIO (io), 17 GPO2 (out), 18 nRSTOUT (out), 19 VLDO2 (power), 20 PVIN_LDO2 (power), 21 VLDO3 (power), 22 PVIN_LDO34 (power), 23 VLDO4 (power), 24 FB_B3, 25 EN/PB/VSENSE, 26 PVIN_B3 (power), 27 LX_B3, 28 MODE_RESET (in), 29 LX_B2, 30 PVIN_B2 (power), 31 MODE_STBY (in), 32 FB_B2, 33 Thermal Pad (power)
text: Buck1; Buck2; Buck3; LDO1; LDO2; LDO3; LDO4; INT LDO; DIGITAL

## TVS0500DRVR
designator U?
pins: 1 GND, 2 GND1, 3 GND2, 4 IN, 5 IN1, 6 IN2, 7 PAD

## USB2.0_Type C_16+6P#1
designator J?
pins: A5 CC1, A6 DP1, A7 DN1, A8 SBU1, B1 A12/B1/GND, B4 A9/B4/VBUS, B5 CC2, B6 DP2, B7 DN2, B8 SBU2, B9 A4/B9/VBUS, B12 A1/B12/GND, S1, S2, S3, S4, S5, S6

## VCC_BAR
designator *  (value not drawn)  (graphical)
pins: $PIN0 (power) hidden to $PIN0

## WL1807MOD
designator U?
part A pins: 2 GPIO11 (io), 3 GPIO9 (io), 4 GPIO10 (io), 5 GPIO12 (io), 6 WL_SDIO_CMD_1V8 (io), 8 WL_SDIO_CLK (in), 10 WL_SDIO_D0_1V8 (io), 11 WL_SDIO_D1_1V8 (io), 12 WL_SDIO_D2_1V8 (io), 13 WL_SDIO_D3_1V8 (io), 14 WL_IRQ_1V8 (out), 18 RF_ANT2 (in), 21 RESERVED1, 22 RESERVED2, 25 GPIO4 (io), 26 GPIO2 (io), 27 GPIO1 (io), 32 RF_ANT1 (in), 36 EXT_32K (in), 38 VIO_IN (power), 40 WLAN_EN (in), 41 BT_EN (in), 42 WL_UART_DBG (out), 43 BT_UART_DBG (out), 46 VBAT_IN (power), 47 VBAT_IN_1 (power), 50 BT_HCI_RTS_1V8 (out), 51 BT_HCI_CTS_1V8 (in), 52 BT_HCI_TX_1V8 (out), 53 BT_HCI_RX_1V8 (in), 56 BT_AUD_IN (in), 57 BT_AUD_OUT (out), 58 BT_AUD_FSYNC (io), 60 BT_AUD_CLK (io), 62 RESERVED3
part B pins: 1 GND (power), 7 GND_1 (power), 9 GND_2 (power), 15 GND_3 (power), 16 GND_4 (power), 17 GND_5 (power), 19 GND_6 (power), 20 GND_7 (power), 23 GND_8 (power), 24 GND_9 (power), 28 GND_10 (power), 29 GND_11 (power), 30 GND_12 (power), 31 GND_13 (power), 33 GND_14 (power), 34 GND_15 (power), 35 GND_16 (power), 37 GND_17 (power), 39 GND_18 (power), 44 GND_19 (power), 45 GND_20 (power), 48 GND_21 (power), 49 GND_22 (power), 54 GND_23 (power), 55 GND_24 (power), 59 GND_25 (power), 61 GND_26 (power), 63 GND_27 (power), 64 GND_28 (power), G1 GND_29 (power), G2 GND_30 (power), G3 GND_31 (power), G4 GND_32 (power), G5 GND_33 (power), G6 GND_34 (power), G7 GND_35 (power), G8 GND_36 (power), G9 GND_37 (power), G10 GND_38 (power), G11 GND_39 (power), G12 GND_40 (power), G13 GND_41 (power), G14 GND_42 (power), G15 GND_43 (power), G16 GND_44 (power), G17 GND_45 (power), G18 GND_46 (power), G19 GND_47 (power), G20 GND_48 (power), G21 GND_49 (power), G22 GND_50 (power), G23 GND_51 (power), G24 GND_52 (power), G25 GND_53 (power), G26 GND_54 (power), G27 GND_55 (power), G28 GND_56 (power), G29 GND_57 (power), G30 GND_58 (power), G31 GND_59 (power), G32 GND_60 (power), G33 GND_61 (power), G34 GND_62 (power), G35 GND_63 (power), G36 GND_64 (power)

## XTAL_2P
designator X?
pins: 1, 2

## XTAL_4P
designator X?
pins: 1, 2, 3, 4

## XTAL_4P_2
designator Y?
ATHEROS KEY: 122-00011-000
footprint CRY-SMD4-CX101F
pins: 1, 2 GND (power), 3, 4 GND (power)